# Altium footprint library SMD-RCD 0607.PcbLib: 104 footprints (part 4 of 7)
Each footprint in its own frame and in the unit in brackets; x right, y up, seen from the top. Pads: shape width x height; smd on the part's side, far side on the other; paste and mask are expansions set on the pad; w line width, h text height; cw(c..) or ccw(c..) is an arc to the next point about the centre after c.
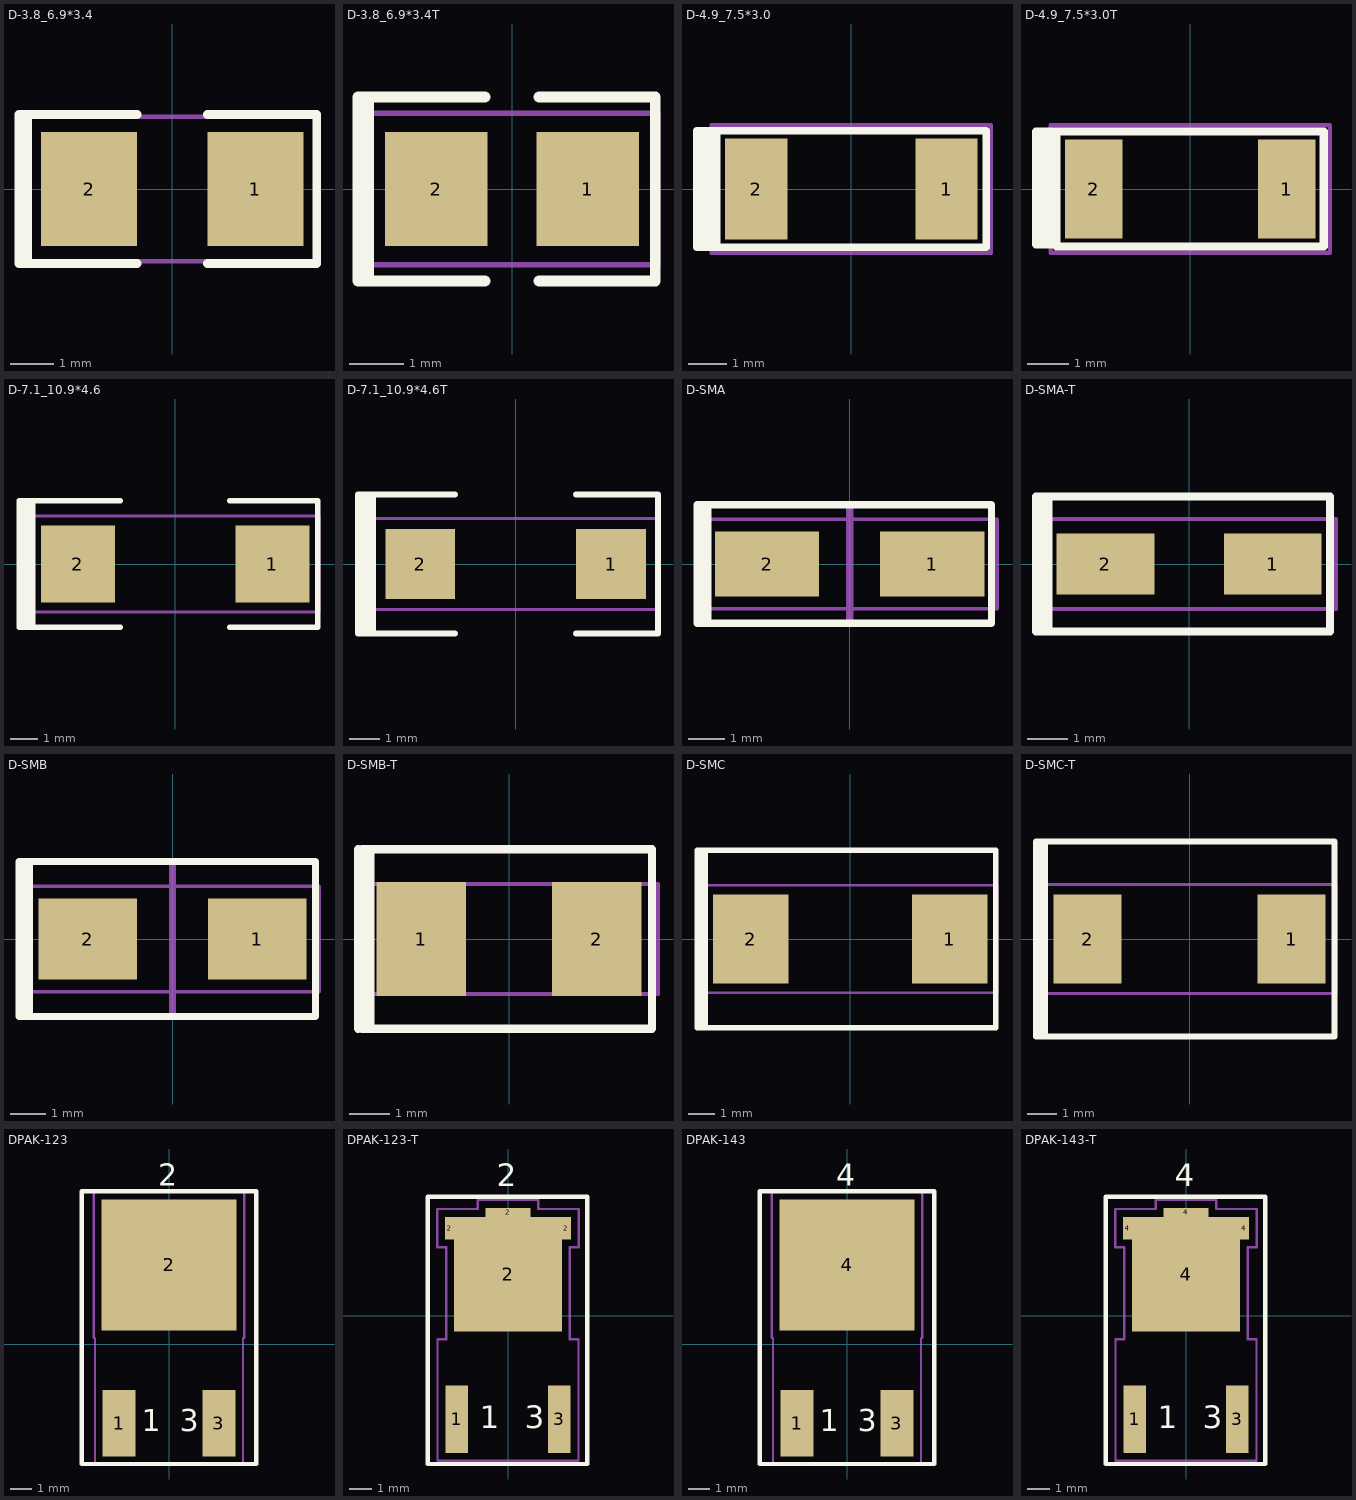
[diagram p3: the footprints below, top view; thin cyan lines are the x and y axes]

## D-3.8_6.9*3.4 [mm]
height 1.9
pads (2):
  rect 2.2x2.6 smd: 1(1.9,0) 2(-1.9,0)
Top Overlay:
  lines w0.2: -3.4,-1.7 -3.4,1.7 ; -3.3,-1.7 -3.3,1.7 ; -0.8,-1.7 -3.5,-1.7 -3.5,1.7 -0.8,1.7 ; 0.8,-1.7 3.3,-1.7 3.3,1.7 0.8,1.7
Mechanical 16:
  lines w0.1: -3.35,-1.65 -3.35,1.65 3.35,1.65 3.35,-1.65 -3.35,-1.65

## D-3.8_6.9*3.4T [mm]
height 1.9
pads (2):
  rect 1.9x2.1 smd: 1(1.4,0) 2(-1.4,0)
Top Overlay:
  lines w0.2: -2.75,-1.7 -2.75,1.7 ; -2.65,-1.7 -2.65,1.7 ; -0.5,-1.7 -2.85,-1.7 -2.85,1.7 -0.5,1.7 ; 0.5,-1.7 2.65,-1.7 2.65,1.7 0.5,1.7
Mechanical 15:
  lines w0.1: -2.7,-1.4 -2.7,1.4 2.7,1.4 2.7,-1.4 -2.7,-1.4

## D-4.9_7.5*3.0 [mm] "D2010,DO-213AB,GL41"
height 2.6
pads (2):
  rect 1.6x2.6 smd: 1(2.45,0) 2(-2.45,0)
Top Overlay:
  rectangle: -3.975,-1.5 -3.475,1.5
  lines w0.2: -3.475,-1.5 -3.975,-1.5 -3.975,1.5 -3.475,1.5 ; -3.475,-1.5 3.475,-1.5 3.475,1.5 -3.475,1.5 ; -3.475,-1.5 -3.475,1.5
Mechanical 16:
  lines w0.1: -3.6,-1.65 3.6,-1.65 3.6,1.65 -3.6,1.65 -3.6,-1.65

## D-4.9_7.5*3.0T [mm] "D2010,DO-213AB,GL41"
height 2.6
pads (2):
  rect 1.4x2.4 smd: 1(2.35,0) 2(-2.35,0)
Top Overlay:
  rectangle: -3.75,-1.35 -3.25,1.4
  lines w0.2: -3.25,-1.35 -3.75,-1.35 -3.75,1.4 -3.25,1.4 ; -3.25,1.4 -3.25,-1.4 3.25,-1.4 3.25,1.4 -3.25,1.4
Mechanical 15:
  lines w0.1: -3.4,-1.55 3.4,-1.55 3.4,1.5 ; -3.4,-1.5 -3.4,1.55 3.4,1.55

## D-7.1_10.9*4.6 [mm]
height 3.1
pads (2):
  rect 2.7x2.8 smd: 1(3.55,0) 2(-3.55,0)
Top Overlay:
  lines w0.2: -5.55,-2.3 -5.55,2.3 ; -5.35,-2.3 -5.35,2.3 ; -2,-2.3 -5.7,-2.3 ; -2,2.3 -5.7,2.3 ; 2,-2.3 5.2,-2.3 5.2,2.3 2,2.3 ; -5.7,-2.3 -5.7,2.3 ; -5.7,-2.3 -5.2,-2.3 -5.2,2.3 -5.7,2.3
Mechanical 16:
  lines w0.1: -5.25,-1.75 -5.25,1.75 5.25,1.75 5.25,-1.75 -5.25,-1.75

## D-7.1_10.9*4.6T [mm]
height 3.1
pads (2):
  rect 2.3x2.3 smd: 1(3.15,0) 2(-3.15,0)
Top Overlay:
  lines w0.2: -5.05,-2.3 -5.05,2.3 ; -4.85,-2.3 -4.85,2.3 ; -2,-2.3 -5.2,-2.3 ; -2,2.3 -5.2,2.3 ; 2,-2.3 4.675,-2.3 ; 2,2.3 4.675,2.3 ; 4.7,-2.3 4.7,2.3 ; -5.2,-2.3 -5.2,2.3 ; -5.2,-2.3 -4.7,-2.3 -4.7,2.3 -5.2,2.3
Mechanical 15:
  lines w0.1: -4.65,-1.5 4.65,-1.5 4.65,1.5 -4.65,1.5 -4.65,-1.5

## D-SMA [mm] "DO-214AC"
height 2.3
pads (2):
  rect 2.9x1.8 smd: 1(2.3,0) 2(-2.3,0)
Top Overlay:
  region: -3.95,1.65 -4.25,1.65 -4.25,-1.65 -3.95,-1.65
  lines w0.2: -3.95,-1.65 -3.95,1.65 ; -4.25,-1.65 -4.25,1.65 3.95,1.65 3.95,-1.65 -4.25,-1.65
Mechanical 9:
  lines w0.2: 0,-1.65 0,1.65
Mechanical 16:
  lines w0.1: -4.1,-1.25 -4.1,1.25 4.1,1.25 4.1,-1.25 -4.1,-1.25

## D-SMA-T [mm] "DO-214AC"
height 2.3
pads (2):
  rect 2.4x1.5 smd: 1(2.05,0) 2(-2.05,0)
Top Overlay:
  region: -3.45,1.65 -3.75,1.65 -3.75,-1.65 -3.45,-1.65
  lines w0.2: -3.45,-1.65 -3.45,1.65 ; -3.75,-1.65 3.45,-1.65 3.45,1.65 -3.75,1.65 -3.75,-1.65
Mechanical 15:
  lines w0.1: -3.6,-1.1 3.6,-1.1 3.6,1.1 -3.6,1.1 -3.6,-1.1

## D-SMB [mm] "DO-214AA"
height 2.5
pads (2):
  rect 2.8x2.3 smd: 1(2.4,0) 2(-2.4,0)
Top Overlay:
  region: -4,2.2 -4.35,2.2 -4.35,-2.2 -4,-2.2
  lines w0.2: -4.05,-2.2 -4.05,2.2 ; -4.35,-2.2 -4.35,2.2 4.05,2.2 4.05,-2.2 -4.35,-2.2
Mechanical 9:
  lines w0.2: 0,-2.2 0,2.2
Mechanical 16:
  lines w0.1: -4.15,-1.5 -4.15,1.5 4.15,1.5 4.15,-1.5 -4.15,-1.5

## D-SMB-T [mm] "DO-214AA"
height 2.5
pads (2):
  rect 2.2x2.8 smd: 1(-2.15,0) 2(2.15,0)
Top Overlay:
  region: -3.35,2.2 -3.7,2.2 -3.7,-2.2 -3.35,-2.2
  lines w0.2: -3.7,-2.2 -3.7,2.2 ; -3.4,-2.2 -3.4,2.2 ; -3.6,-2.2 -3.6,2.2 3.5,2.2 3.5,-2.2 -3.6,-2.2
Mechanical 15:
  lines w0.1: -3.65,-1.35 -3.65,1.35 3.65,1.35 3.65,-1.35 -3.65,-1.35

## D-SMC [mm] "DO-214AB"
height 2.62
pads (2):
  rect 2.8x3.3 smd: 1(3.7,0) 2(-3.7,0)
Top Overlay:
  lines w0.2: -5.4,-3.3 5.4,-3.3 5.4,3.3 -5.4,3.3 ; -5.4,-3.3 -5.4,3.3 ; -5.4,-3.3 -5.7,-3.3 -5.7,2.7 -5.7,3.3 -5.4,3.3
  lines w0.3: -5.5,-3.1 -5.5,3.2
Mechanical 16:
  lines w0.1: -5.45,-2 -5.45,2 5.45,2 5.45,-2 -5.45,-2

## D-SMC-T [mm] "DO-214AB"
height 2.62
pads (2):
  rect 2.3x3 smd: 1(3.45,0) 2(-3.45,0)
Top Overlay:
  lines w0.2: -4.9,-3.3 4.9,-3.3 4.9,3.3 -4.9,3.3 ; -4.9,-3.3 -4.9,3.3 ; -4.9,-3.3 -5.2,-3.3 -5.2,2.7 -5.2,3.3 -4.9,3.3
  lines w0.3: -5,-3.2 -5,3.2
Mechanical 15:
  lines w0.1: -4.95,-1.85 -4.95,1.85 4.95,1.85 4.95,-1.85 -4.95,-1.85

## DPAK-123 [mil]
height 99.61
pads (3):
  rect 60x120 smd: 1(-90,-142.72) 3(90,-142.72)
  rect 244.09x236.22 smd: 2(0,142.72)
Top Overlay:
  lines w7.87: -157.48,-216.54 157.48,-216.54 157.48,275.59 -157.48,275.59 -157.48,-216.54
  text "2" at -19.68,285.43 h39.37
  text "1" at -49.21,-157.48 h39.37
  text "3" at 19.68,-157.48 h39.37
Mechanical 16:
  lines w3.94: 135.83,10.83 135.83,274.61 ; 135.83,10.83 135.83,274.61 ; 135.83,10.83 133.78,10.83 133.78,-216.5 -133.78,-216.5 -133.78,10.83 -135.83,10.83 -135.83,274.61 135.83,274.61

## DPAK-123-T [mm]
height 2.53
pads (6):
  rect 1x3 smd: 1(-2.285,-4.6) 3(2.285,-4.6)
  rect 0.4x1 smd: 2(-2.6,3.9) 2(2.6,3.9)
  rect 4.8x5.1 smd: 2(0,1.85)
  rect 2x0.4 smd: 2(0,4.6)
Top Overlay:
  lines w0.2: -3.575,-6.6 3.525,-6.6 3.525,5.3 -3.575,5.3 -3.575,-6.6
  text "2" at -0.5,5.75 h1
  text "1" at -1.25,-5 h1
  text "3" at 0.75,-5 h1
Mechanical 15:
  lines w0.1: -3.15,3.05 -2.75,3.05 -2.75,-1.05 -3.135,-1.05 -3.135,-6.45 3.135,-6.45 3.135,-1.05 2.75,-1.05 2.75,3.05 3.15,3.05 3.15,4.75 1.35,4.75 1.35,5.15 -1.35,5.15 -1.35,4.75 -3.15,4.75 -3.15,3.05

## DPAK-143 [mil]
height 183.07
pads (3):
  rect 60x120 smd: 1(-90,-142.72) 3(90,-142.72)
  rect 244.09x236.22 smd: 4(0,142.72)
Top Overlay:
  lines w7.87: -157.48,-216.54 -157.48,275.59 157.48,275.59 157.48,-216.54 -157.48,-216.54
  text "3" at 19.68,-157.48 h39.37
  text "1" at -49.21,-157.48 h39.37
  text "4" at -19.68,285.43 h39.37
Mechanical 16:
  lines w3.94: 135.83,10.83 133.78,10.83 133.78,-216.5 -133.78,-216.5 -133.78,10.83 -135.83,10.83 -135.83,274.61 135.83,274.61 ; 135.83,10.83 135.83,274.61 ; 135.83,10.83 135.83,274.61

## DPAK-143-T [mm]
height 4.65
pads (6):
  rect 1x3 smd: 1(-2.285,-4.6) 3(2.285,-4.6)
  rect 0.4x1 smd: 4(-2.6,3.9) 4(2.6,3.9)
  rect 4.8x5.1 smd: 4(0,1.85)
  rect 2x0.4 smd: 4(0,4.6)
Top Overlay:
  lines w0.2: -3.575,-6.6 -3.575,5.3 3.525,5.3 3.525,-6.6 -3.575,-6.6
  text "3" at 0.75,-5 h1
  text "1" at -1.25,-5 h1
  text "4" at -0.5,5.75 h1
Mechanical 15:
  lines w0.1: -3.15,3.05 -3.15,4.75 -1.35,4.75 -1.35,5.15 1.35,5.15 1.35,4.75 3.15,4.75 3.15,3.05 2.75,3.05 2.75,-1.05 3.135,-1.05 3.135,-6.45 -3.135,-6.45 -3.135,-1.05 -2.75,-1.05 -2.75,3.05 -3.15,3.05